# Altium footprint library Header-2mm-1X4-M-V.PcbLib: 1 footprints
Each footprint in its own frame and in the unit in brackets; x right, y up, seen from the top. Pads: shape width x height; smd on the part's side, far side on the other; paste and mask are expansions set on the pad; w line width, h text height; cw(c..) or ccw(c..) is an arc to the next point about the centre after c.
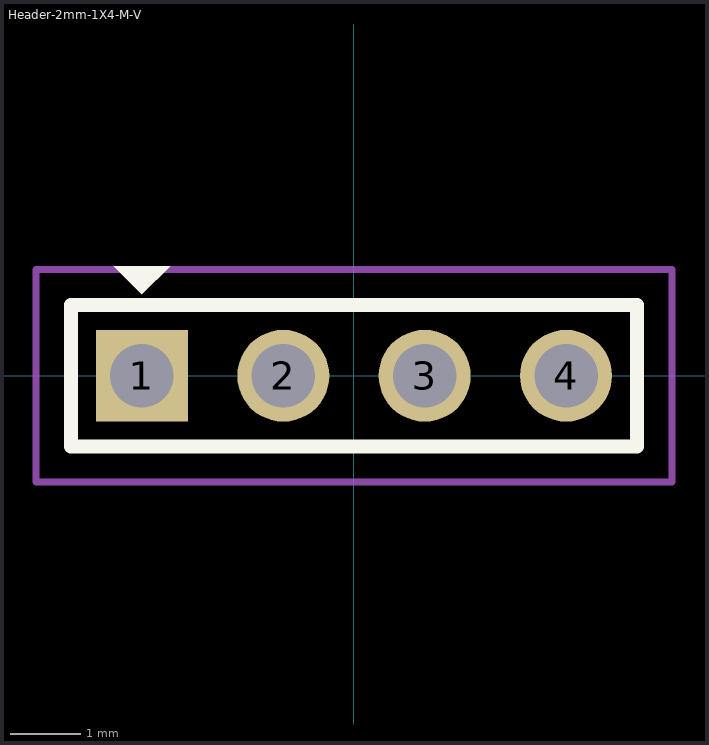
[diagram p0: the footprint, top view; thin cyan lines are the x and y axes]

## Header-2mm-1X4-M-V [mm]
pads (4):
  rect 1.3x1.3 hole 0.9: 1(-3,0)
  round 1.3 hole 0.9: 2(-1,0) 3(1,0) 4(3,0)
Top Overlay:
  region: -3.4,1.55 -2.6,1.55 -3,1.15
  lines w0.2: -4,-1 -4,1 4,1 4,-1 -4,-1
Top Courtyard:
  lines w0.1: -4.5,-1 -4.5,-1.5 ; -4.5,1 -4.5,1.5 ; -4,-1.5 -4.5,-1.5 ; -4,1.5 -4.5,1.5 ; 4,-1.5 4.5,-1.5 ; 4,1.5 4.5,1.5 ; 4.5,-1 4.5,-1.5 ; 4.5,1 4.5,1.5 ; -4.5,-1.5 -4.5,1.5 ; -4.5,-1.5 4.5,-1.5 ; -4.5,1.5 -4.5,1.5 ; -4.5,1.5 -4.5,1.5 ; -4.5,1.5 4.5,1.5 ; 4.5,-1.5 4.5,1.5
3D body "MTMM-104-06-T-S-200.stp": height 6.58, standoff -3.51, extent -4,-0.999 4,1
3D body: height 2.5, standoff 0, extent -3.475,-0.475 -2.525,0.475
3D body: height 2.5, standoff 0, extent -1.475,-0.475 -0.525,0.475